# Altium footprint library Safety_Lock.PcbLib: 46 footprints (part 3 of 3)
Each footprint in its own frame and in the unit in brackets; x right, y up, seen from the top. Pads: shape width x height; smd on the part's side, far side on the other; paste and mask are expansions set on the pad; w line width, h text height; cw(c..) or ccw(c..) is an arc to the next point about the centre after c.
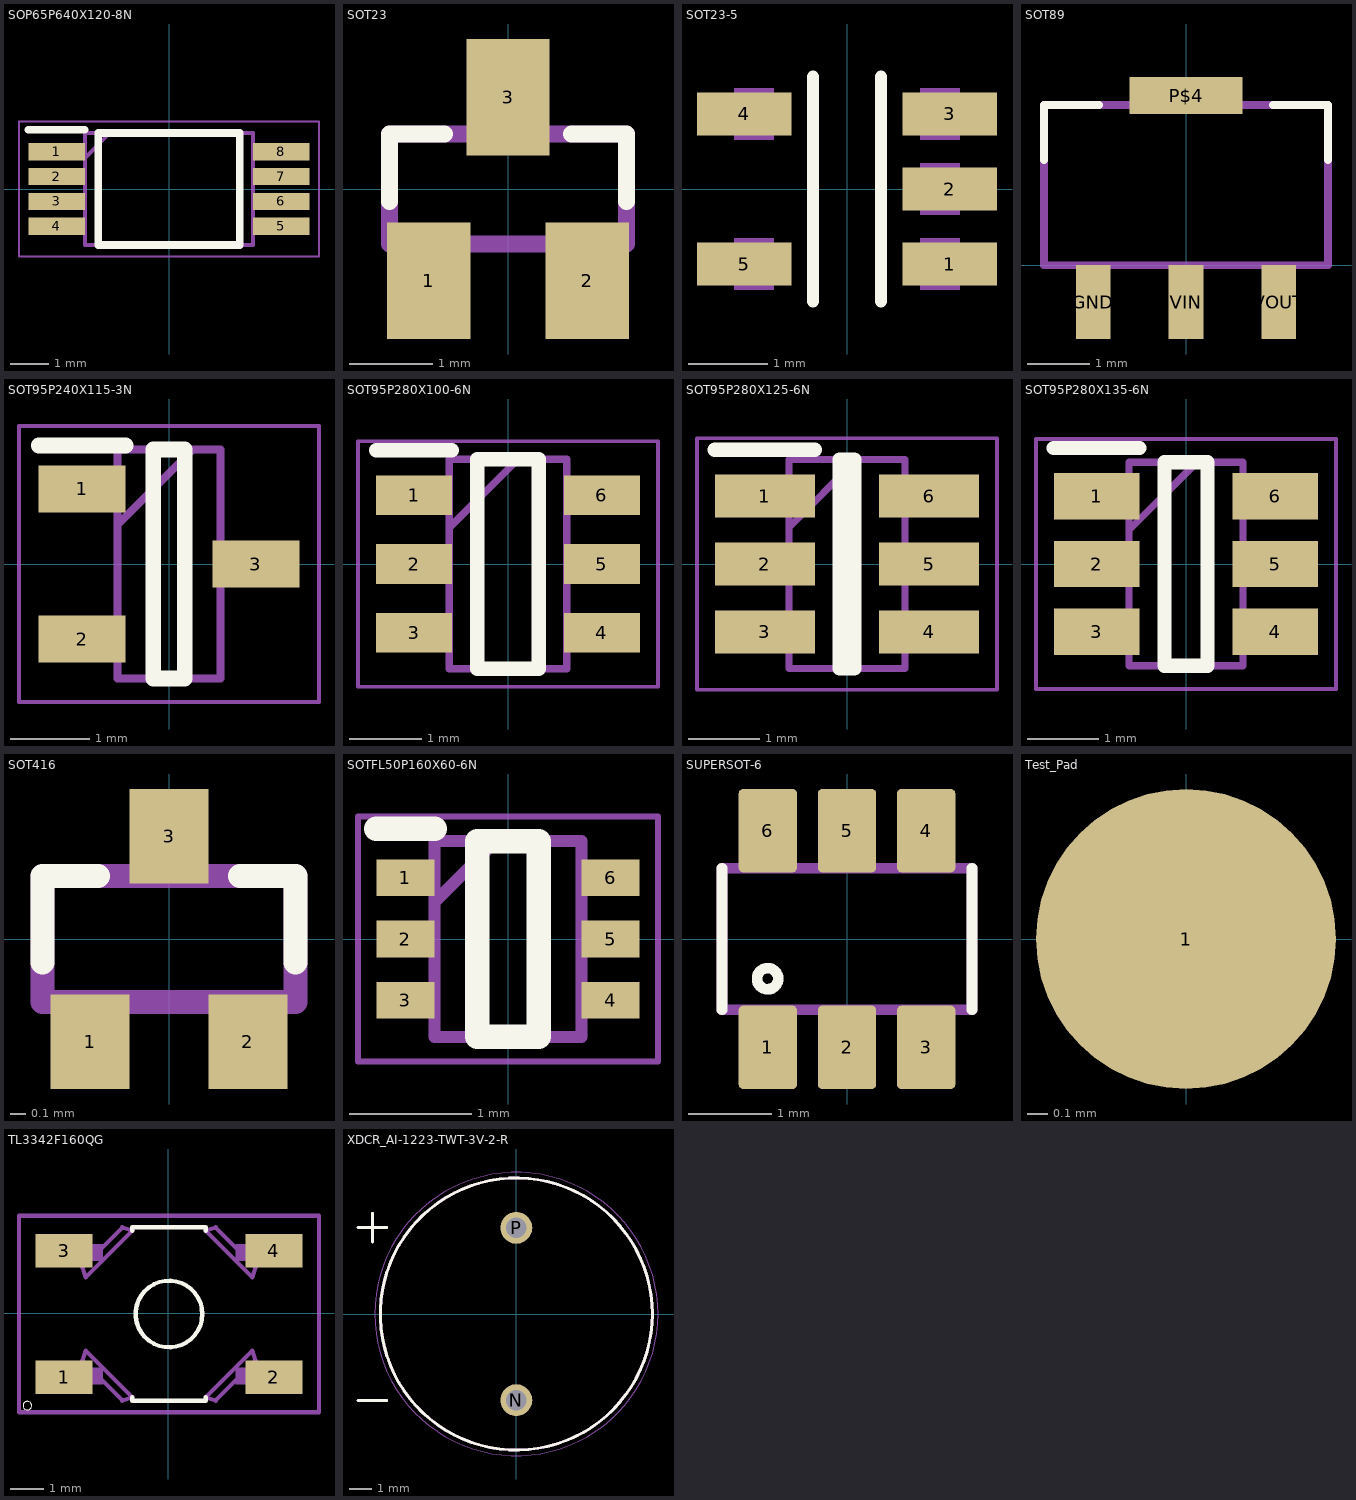
[diagram p2: the footprints below, top view; thin cyan lines are the x and y axes]

## SOP65P640X120-8N [mm]
pads (8):
  rect 1.475x0.45 smd: 1(-2.938,0.975) 2(-2.938,0.325) 3(-2.938,-0.325) 4(-2.938,-0.975) 5(2.938,-0.975) 6(2.938,-0.325) 7(2.938,0.325) 8(2.938,0.975)
Top Overlay:
  lines w0.2: -3.675,1.55 -2.2,1.55 ; -1.85,-1.465 1.85,-1.465 1.85,1.465 -1.85,1.465 -1.85,-1.465
Mechanical 13:
  lines w0.1: -2.2,0.815 -1.55,1.465 ; -2.2,-1.465 2.2,-1.465 2.2,1.465 -2.2,1.465 -2.2,-1.465
Mechanical 15:
  lines w0.05: -3.925,-1.765 3.925,-1.765 3.925,1.765 -3.925,1.765 -3.925,-1.765
3D body "FS8205A.stp": height 1.2, standoff 0, extent -3.2,-1.465 3.2,1.465

## SOT23 [mm]
pads (3):
  rect 1x1.4 smd: 1(-0.95,-1.1) 2(0.95,-1.1) 3(0,1.1)
Top Overlay:
  lines w0.203: -1.422,-0.152 -1.422,0.66 -0.764,0.66 ; 0.764,0.66 1.422,0.66 1.422,-0.152
Mechanical 13:
  region: -0.711,-1.296 -1.169,-1.296 -1.169,-0.711 -0.711,-0.711
  region: 1.168,-1.297 0.712,-1.297 0.712,-0.711 1.168,-0.711
  region: 0.229,0.712 -0.229,0.712 -0.229,1.295 0.229,1.295
  lines w0.203: -1.422,-0.66 -1.422,0.66 1.422,0.66 1.422,-0.66 -1.422,-0.66
3D body "MMBFJ177.STEP": height 1.11, standoff 0, extent -1.45,-1.2 1.45,1.2

## SOT23-5 [mm]
pads (5):
  rect 1.2x0.55 smd: 1(1.3,-0.95) 2(1.3,0) 3(1.3,0.95) 4(-1.3,0.95) 5(-1.3,-0.95)
Top Overlay:
  lines w0.152: -0.429,-1.422 -0.429,1.422 ; 0.429,-1.422 0.429,1.422
Mechanical 13:
  region: 1.425,-1.277 0.926,-1.277 0.926,-0.625 1.425,-0.625
  region: 1.425,-0.325 0.925,-0.325 0.925,0.325 1.425,0.325
  region: 1.425,0.626 0.926,0.626 0.926,1.275 1.425,1.275
  region: -0.925,0.625 -1.426,0.625 -1.426,1.275 -0.925,1.275
  region: -0.925,-1.277 -1.427,-1.277 -1.427,-0.625 -0.925,-0.625
3D body "SOT-23-5_VAR-AA.step": height 1.45, standoff 0, extent -1.397,-1.448 1.397,1.448

## SOT89 [mil]
pads (4):
  rect 22x47 smd: GND(-59,-23.5) VIN(0,-23.5) VOUT(59,-23.5)
  rect 72x23.62 smd: P$4(0,108)
Top Overlay:
  lines w5: -90.5,67 -90.5,102 -55.5,102 ; 55.5,102 90.5,102 90.5,67
Mechanical 13:
  lines w5: -90.5,0 -90.5,102 90.5,102 90.5,0 -90.5,0
3D body "BGA3018.STEP": height 62.99, standoff 0, extent -89.08,-39.58 88.08,117.9

## SOT95P240X115-3N [mm]
pads (3):
  rect 1.1x0.6 smd: 1(-1.1,0.95) 2(-1.1,-0.95) 3(1.1,0)
Top Overlay:
  lines w0.2: -1.65,1.5 -0.55,1.5 ; -0.2,-1.45 0.2,-1.45 0.2,1.45 -0.2,1.45 -0.2,-1.45
Mechanical 13:
  lines w0.1: -0.65,0.5 0.3,1.45 ; -0.65,-1.45 0.65,-1.45 0.65,1.45 -0.65,1.45 -0.65,-1.45
Mechanical 15:
  lines w0.05: -1.9,-1.75 1.9,-1.75 1.9,1.75 -1.9,1.75 -1.9,-1.75
3D body "MMBT2222A-G.stp": height 1.15, standoff 0, extent -1.2,-1.45 1.2,1.45

## SOT95P280X100-6N [mm]
pads (6):
  rect 1.05x0.55 smd: 1(-1.3,0.95) 2(-1.3,0) 3(-1.3,-0.95) 4(1.3,-0.95) 5(1.3,0) 6(1.3,0.95)
Top Overlay:
  lines w0.2: -1.825,1.575 -0.775,1.575 ; -0.425,-1.45 -0.425,1.45 0.425,1.45 0.425,-1.45 -0.425,-1.45
Mechanical 13:
  lines w0.1: -0.812,0.5 0.138,1.45 ; -0.812,-1.45 -0.812,1.45 0.812,1.45 0.812,-1.45 -0.812,-1.45
Mechanical 15:
  lines w0.05: -2.075,-1.7 -2.075,1.7 2.075,1.7 2.075,-1.7 -2.075,-1.7
3D body "LTC4412HVIS6#TRMPBF.stp": height 1, standoff 0, extent -1.4,-1.45 1.4,1.45

## SOT95P280X125-6N [mm]
pads (6):
  rect 1.4x0.6 smd: 1(-1.15,0.95) 2(-1.15,0) 3(-1.15,-0.95) 4(1.15,-0.95) 5(1.15,0) 6(1.15,0.95)
Top Overlay:
  lines w0.2: -1.85,1.6 -0.45,1.6 ; -0.1,-1.463 -0.1,1.463 0.1,1.463 0.1,-1.463 -0.1,-1.463
Mechanical 13:
  lines w0.1: -0.813,0.513 0.137,1.463 ; -0.813,-1.463 -0.813,1.463 0.813,1.463 0.813,-1.463 -0.813,-1.463
Mechanical 15:
  lines w0.05: -2.1,-1.763 -2.1,1.763 2.1,1.763 2.1,-1.763 -2.1,-1.763
3D body "TP4057-42-SOT26-R.stp": height 1.25, standoff 0, extent -1.4,-1.463 1.4,1.463

## SOT95P280X135-6N [mm]
pads (6):
  rect 1.2x0.65 smd: 1(-1.25,0.95) 2(-1.25,0) 3(-1.25,-0.95) 4(1.25,-0.95) 5(1.25,0) 6(1.25,0.95)
Top Overlay:
  lines w0.2: -1.85,1.625 -0.65,1.625 ; -0.3,-1.425 0.3,-1.425 0.3,1.425 -0.3,1.425 -0.3,-1.425
Mechanical 13:
  lines w0.1: -0.8,0.475 0.15,1.425 ; -0.8,-1.425 0.8,-1.425 0.8,1.425 -0.8,1.425 -0.8,-1.425
Mechanical 15:
  lines w0.05: -2.1,-1.75 2.1,-1.75 2.1,1.75 -2.1,1.75 -2.1,-1.75
3D body "DW01A-G.stp": height 1.35, standoff 0, extent -1.4,-1.425 1.4,1.425

## SOT416 [mm]
pads (3):
  rect 0.5x0.6 smd: 1(-0.5,-0.65) 2(0.5,-0.65) 3(0,0.65)
Top Overlay:
  lines w0.152: -0.8,-0.15 -0.8,0.4 -0.45,0.4 ; 0.45,0.4 0.8,0.4 0.8,-0.15
Mechanical 13:
  region: -0.4,-0.7 -0.6,-0.7 -0.6,-0.4 -0.4,-0.4
  region: 0.6,-0.701 0.401,-0.701 0.401,-0.4 0.6,-0.4
  region: 0.1,0.4 -0.1,0.4 -0.1,0.7 0.1,0.7
  lines w0.152: -0.8,-0.4 0.8,-0.4 0.8,0.4 -0.8,0.4 -0.8,-0.4
3D body: height 1, standoff 0, extent -0.8,-0.7 0.8,0.7

## SOTFL50P160X60-6N [mm]
pads (6):
  rect 0.475x0.3 smd: 1(-0.838,0.5) 2(-0.838,0) 3(-0.838,-0.5) 4(0.838,-0.5) 5(0.838,0) 6(0.838,0.5)
Top Overlay:
  lines w0.2: -1.075,0.9 -0.6,0.9 ; -0.25,-0.8 -0.25,0.8 0.25,0.8 0.25,-0.8 -0.25,-0.8
Mechanical 13:
  lines w0.1: -0.6,0.3 -0.1,0.8 ; -0.6,-0.8 -0.6,0.8 0.6,0.8 0.6,-0.8 -0.6,-0.8
Mechanical 15:
  lines w0.05: -1.225,-1 -1.225,1 1.225,1 1.225,-1 -1.225,-1
3D body "TPS61023DRLR.stp": height 0.6, standoff 0, extent -0.8,-0.8 0.8,0.8

## SUPERSOT-6 [mm]
pads (6):
  rrect15% 0.7x1 smd: 1(-0.95,-1.3) 2(0,-1.3) 3(0.95,-1.3) 4(0.95,1.3) 5(0,1.3) 6(-0.95,1.3)
Top Overlay:
  circle w0.127: c-0.953,-0.476 r0.127
  lines w0.127: -1.5,-0.85 -1.5,0.85 ; 1.5,-0.85 1.5,0.85
Mechanical 13:
  lines w0.127: -1.5,-0.85 -1.5,0.85 1.5,0.85 1.5,-0.85 -1.5,-0.85
3D body "LTC3542IS6#TRMPBF.STEP": height 1, standoff 0, extent -1.45,-1.4 1.45,1.4

## Test_Pad [mm]
pads (1):
  round 1.5 smd paste-0.75 mask+0.051: 1(0,0)

## TL3342F160QG [mm]
pads (4):
  rect 1.7x1 smd: 1(-3.125,-1.925) 2(3.175,-1.925) 3(-3.125,1.875) 4(3.175,1.875)
Top Overlay:
  circle w0.127: c0.025,-0.025 r1
  circle w0: c-4.225,-2.775 r0.127
  lines w0.127: -1.075,-2.525 -1.075,-2.625 1.125,-2.625 1.125,-2.525 ; -1.075,2.475 -1.075,2.575 1.125,2.575 1.125,2.475
Top Courtyard:
  lines w0.127: -4.475,-2.975 4.525,-2.975 4.525,2.925 -4.475,2.925 -4.475,-2.975
Top Assembly:
  region: -1.97,1.572 -3.174,1.572 -3.174,2.07 -1.97,2.07
  region: 3.23,1.572 2.033,1.572 2.033,2.07 3.23,2.07
  region: -1.97,-2.131 -3.171,-2.131 -3.171,-1.63 -1.97,-1.63
  region: 3.23,-2.132 2.032,-2.132 2.032,-1.63 3.23,-1.63
  lines w0.127: -2.575,-1.425 -1.375,-2.625 -1.075,-2.525 -2.475,-1.125 -2.575,-1.425 ; -2.575,1.375 -1.375,2.575 -1.075,2.475 -2.475,1.075 -2.575,1.375 ; 1.125,-2.525 2.525,-1.125 2.625,-1.425 1.425,-2.625 1.125,-2.525 ; 1.125,2.475 2.525,1.075 2.625,1.375 1.425,2.575 1.125,2.475
3D body "User Library-button1.STEP": height 1.5, standoff 0, extent -3.175,-2.675 3.228,2.625

## XDCR_AI-1223-TWT-3V-2-R [mm]
pads (2):
  round 1.408 hole 0.9: N(0,-3.8) P(0,3.8)
Top Overlay:
  circle w0.127: c0,0 r6
  lines w0.127: -6.985,-3.81 -5.715,-3.81 ; -6.985,3.81 -5.715,3.81 ; -6.35,3.175 -6.35,4.445
Mechanical 13:
  circle w0.127: c0,0 r6
  lines w0.127: -6.985,-3.81 -5.715,-3.81 ; -6.985,3.81 -5.715,3.81 ; -6.35,3.175 -6.35,4.445
Mechanical 15:
  circle w0.05: c0,0 r6.25
3D body "step_temp.STEP": height 7.65, standoff -6.4, extent -6.013,-6.025 5.987,7.414